# EAGLE library part CON-USB_1981584-1 (library Custom_Teensy_3.1)
Receptacle, micro-USB, type A/B Tyco Electronics
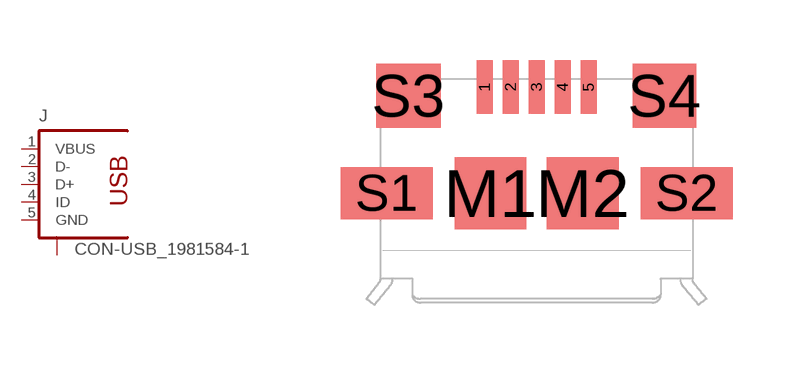
[diagram p3: symbol with the pads of CON-USB_1981584-1; footprint CON-USB_1981584-1]

Designator prefix J

## CON-USB_1981584-1  [CON-USB_1981584-1]
1  VBUS  pas
2  D-  pas
3  D+  pas
4  ID  pas
5  GND  pas
S1  S1  pas
S2  S2  pas
S3  S3  pas
S4  S4  pas

## Footprint CON-USB_1981584-1 (pad centres in mm)
Micro USB Type-A/B Receptacle Tyco Electronics
smd 0.4 x 1.35: 1 -1.3,4.1; 2 -0.65,4.1; 3 0,4.1; 4 0.65,4.1; 5 1.3,4.1
smd 1.8 x 1.8: M1 -1.15,1.45; M2 1.15,1.45
smd 2.3 x 1.3: S1 -3.75,1.45; S2 3.75,1.45
smd 1.6 x 1.6: S3 -3.2,3.885; S4 3.2,3.885